# Altium schematic symbol library SRF1280.Schlib: 1 symbol
Pins are listed as number, name and electrical type; pins without a type are passive.

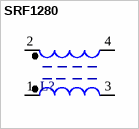
[diagram p0: symbol SRF1280]

## SRF1280
designator L?
Inductor
pins: 1, 2, 3 2, 4 1